# Altium schematic symbol library shumaguan.SCHLIB: 1 symbol
Pins are listed as number, name and electrical type; pins without a type are passive.

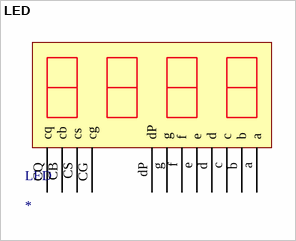
[diagram p0: symbol LED]

## LED
designator LED
pins: a, b, c, CB cb, CG cg, CQ cq, CS cs, d, dP, e, f, g